# EAGLE library part LB1909MC (library Components)
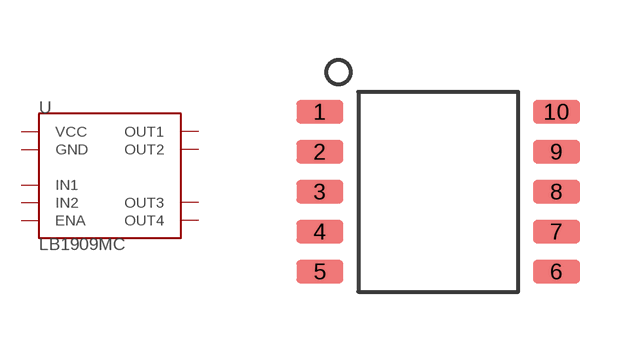
[diagram p2: symbol with the pads of SOIC-10; footprint SOIC-10]

Designator prefix -

## LB1909MC  [SOIC-10]
1  VCC  pwr
2  ENA  in
3  IN1  in
4  IN2  in
6  GND  pwr
7  OUT4
8  OUT3
9  OUT2
10  OUT1

## Footprint SOIC-10 (pad centres in mm)
smd 1.18 x 0.58: 1 -2.96,2; 2 -2.96,1; 3 -2.96,0; 4 -2.96,-1; 5 -2.96,-2; 6 2.96,-2; 7 2.96,-1; 8 2.96,0; 9 2.96,1; 10 2.96,2